# Altium integrated library Infineon_Microcontroller.IntLib: 721 symbols (part 28 of 66)
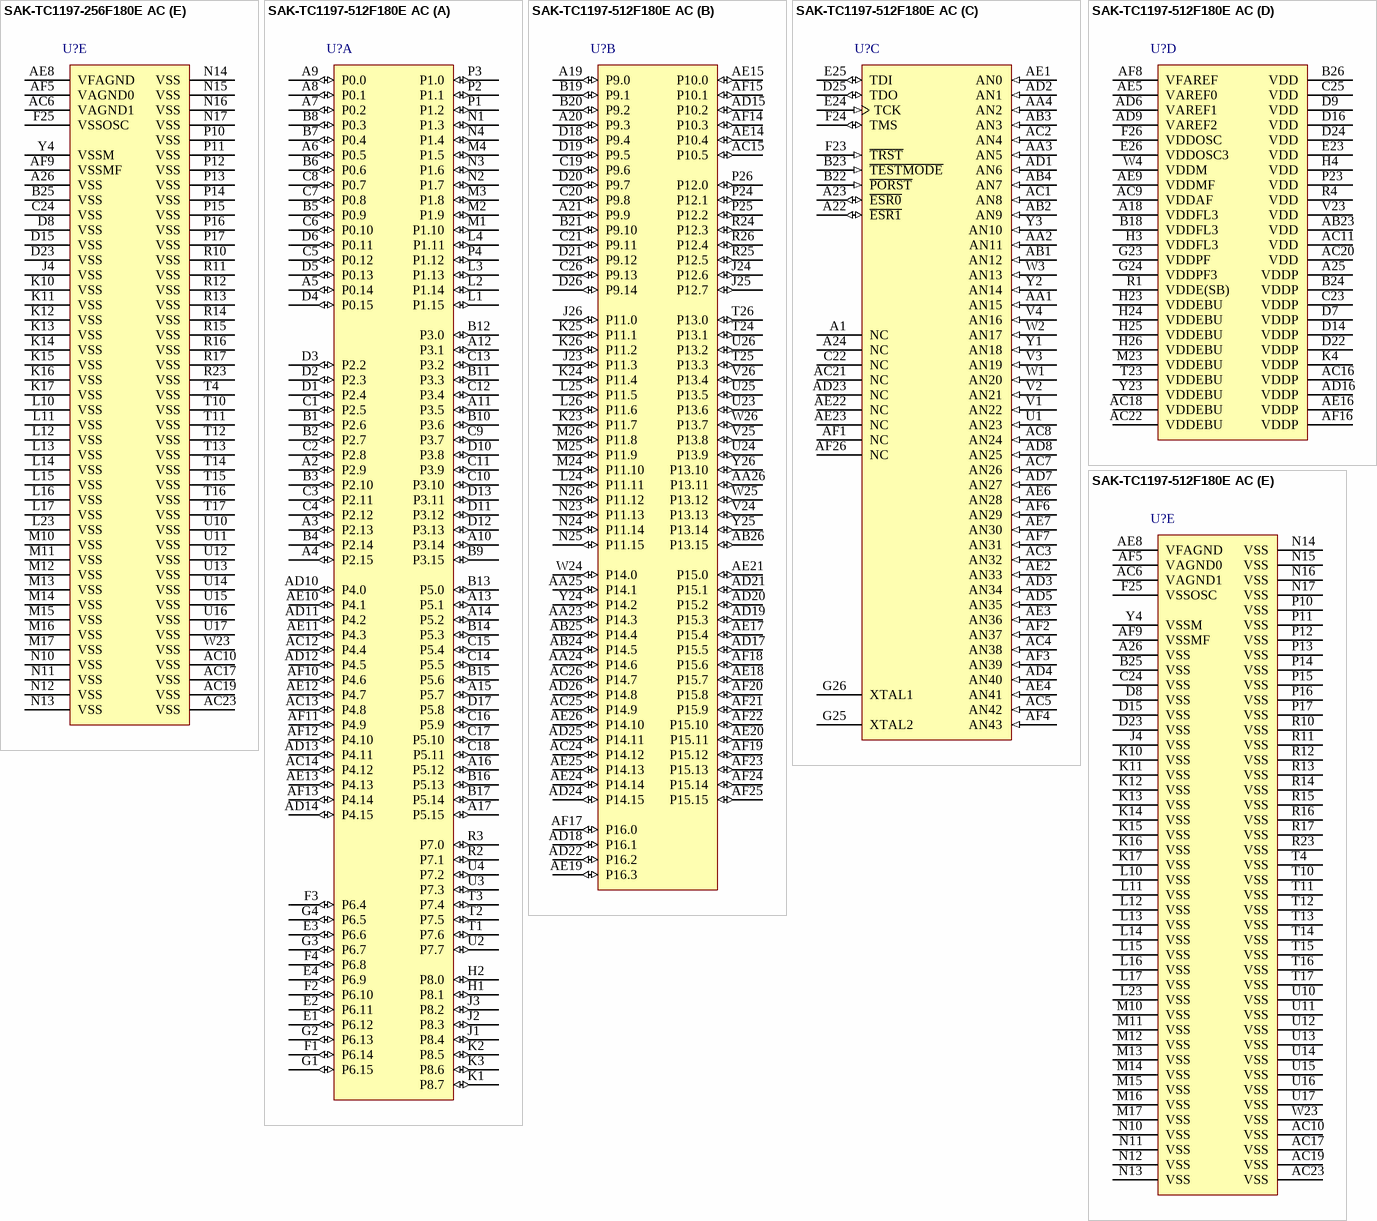
[diagram p145: symbols SAK-TC1197-256F180E AC to SAK-TC1197-512F180E AC]

## SAK-TC1197-256F180E AC
designator U?
180 MHz TC11 MCU with 2 MB Program Memory, 224 KByte SRAM, 3.3 V, 5.0 V, -40 to 125 degC, PG-BGA-416, Reel, Green; Manufacturer: Infineon; PartNumber: SAK-TC1197-256F180E AC; A / D input lines (incl. FADC): 48; CAN Nodes: 4; Digital I/O Lines: 219; DMA Channels: 16; DSP functionality (e.g MDU/MAC): TRUE; Instruction width [bits]: 32/16; Max Clock Frequency: 180 MHz; Number of ADC Modules: 3; Program Memory: 2 MB; Serial I/O Interfaces: 8; Timed I/O Pins (PWM-Ch,CAPCOM): 120; Timer / Counter: 228; Type of Memory: Flash; Type of Serial I/O Interfaces: ASC(2), SSC(2), MSC(2), MLI(2); DatasheetVersion: Rev. 1.1; PackageVersion: Feb-08; PackageReference: PG-BGA-416-10; PackageDescription: 416-Pin Plastic (Green) Ball Grid Array Package, Body 27 x 27 mm, Pitch 1 mm; Supplier 1: Digi-Key; Supplier Part Number 1: SAK-TC1197-256F180E AC-ND; E2PROM Emulation (Data-Flash): TRUE; External Bus interface: TRUE; Floating Point Unit: TRUE; Green: TRUE; Halogen-free: TRUE; I/O Operation Voltages: 3.3 V, 5.0 V; On-chip clock generation: TRUE; Oscillator Watchdog: TRUE; Packing: Reel; Peripheral Control Processor (PCP): TRUE; Power Modes: 3; SRAM (incl. Cache): 224 KByte; Watchdog Timer: TRUE; Mounting Technology: Surface Mount; ComponentLink1Description: Manufacturer URL; ComponentLink1URL: http://www.infineon.com/; ComponentLink2Description: Datasheet; ComponentLink2URL: http://www.infineon.com/dgdl/TC1197_data_sheet_V11.pdf?folderId=db3a3043156fd5730115b892639c0e97&fileId=db3a30431f848401011fae6229304728; ComponentLink3Description: Package Specification; ComponentLink3URL: http://www.infineon.com/dgdl/PG-BGA-416-4%2C-10%2C-13%2C-14-Package_Overview.pdf?folderId=db3a304317a748360117ac3a3cfd7449&fileId=db3a304317a748360117b12de3bd682e
footprint INF-PG-BGA-416-10 (BGA, 416-Balls, Body 27x27mm, Pitch 1mm)
part A pins: A2 P2.9 (io), A3 P2.13 (io), A4 P2.15 (io), A5 P0.14 (io), A6 P0.5 (io), A7 P0.2 (io), A8 P0.1 (io), A9 P0.0 (io), A10 P3.14 (io), A11 P3.5 (io), A12 P3.1 (io), A13 P5.1 (io), A14 P5.2 (io), A15 P5.7 (io), A16 P5.12 (io), A17 P5.15 (io), AC12 P4.4 (io), AC13 P4.8 (io), AC14 P4.12 (io), AD10 P4.0 (io), AD11 P4.2 (io), AD12 P4.5 (io), AD13 P4.11 (io), AD14 P4.15 (io), AE10 P4.1 (io), AE11 P4.3 (io), AE12 P4.7 (io), AE13 P4.13 (io), AF10 P4.6 (io), AF11 P4.9 (io), AF12 P4.10 (io), AF13 P4.14 (io), B1 P2.6 (io), B2 P2.7 (io), B3 P2.10 (io), B4 P2.14 (io), B5 P0.9 (io), B6 P0.6 (io), B7 P0.4 (io), B8 P0.3 (io), B9 P3.15 (io), B10 P3.6 (io), B11 P3.3 (io), B12 P3.0 (io), B13 P5.0 (io), B14 P5.3 (io), B15 P5.6 (io), B16 P5.13 (io), B17 P5.14 (io), C1 P2.5 (io), C2 P2.8 (io), C3 P2.11 (io), C4 P2.12 (io), C5 P0.12 (io), C6 P0.10 (io), C7 P0.8 (io), C8 P0.7 (io), C9 P3.7 (io), C10 P3.10 (io), C11 P3.9 (io), C12 P3.4 (io), C13 P3.2 (io), C14 P5.5 (io), C15 P5.4 (io), C16 P5.9 (io), C17 P5.10 (io), C18 P5.11 (io), D1 P2.4 (io), D2 P2.3 (io), D3 P2.2 (io), D4 P0.15 (io), D5 P0.13 (io), D6 P0.11 (io), D10 P3.8 (io), D11 P3.12 (io), D12 P3.13 (io), D13 P3.11 (io), D17 P5.8 (io), E1 P6.12 (io), E2 P6.11 (io), E3 P6.6 (io), E4 P6.9 (io), F1 P6.14 (io), F2 P6.10 (io), F3 P6.4 (io), F4 P6.8 (io), G1 P6.15 (io), G2 P6.13 (io), G3 P6.7 (io), G4 P6.5 (io), H1 P8.1 (io), H2 P8.0 (io), J1 P8.4 (io), J2 P8.3 (io), J3 P8.2 (io), K1 P8.7 (io), K2 P8.5 (io), K3 P8.6 (io), L1 P1.15 (io), L2 P1.14 (io), L3 P1.13 (io), L4 P1.11 (io), M1 P1.10 (io), M2 P1.9 (io), M3 P1.8 (io), M4 P1.5 (io), N1 P1.3 (io), N2 P1.7 (io), N3 P1.6 (io), N4 P1.4 (io), P1 P1.2 (io), P2 P1.1 (io), P3 P1.0 (io), P4 P1.12 (io), R2 P7.1 (io), R3 P7.0 (io), T1 P7.6 (io), T2 P7.5 (io), T3 P7.4 (io), U2 P7.7 (io), U3 P7.3 (io), U4 P7.2 (io)
part B pins: A19 P9.0 (io), A20 P9.3 (io), A21 P9.9 (io), AA23 P14.3 (io), AA24 P14.6 (io), AA25 P14.1 (io), AA26 P13.11 (io), AB24 P14.5 (io), AB25 P14.4 (io), AB26 P13.15 (io), AC15 P10.5 (io), AC24 P14.12 (io), AC25 P14.9 (io), AC26 P14.7 (io), AD15 P10.2 (io), AD17 P15.5 (io), AD18 P16.1 (io), AD19 P15.3 (io), AD20 P15.2 (io), AD21 P15.1 (io), AD22 P16.2 (io), AD24 P14.15 (io), AD25 P14.11 (io), AD26 P14.8 (io), AE14 P10.4 (io), AE15 P10.0 (io), AE17 P15.4 (io), AE18 P15.7 (io), AE19 P16.3 (io), AE20 P15.11 (io), AE21 P15.0 (io), AE24 P14.14 (io), AE25 P14.13 (io), AE26 P14.10 (io), AF14 P10.3 (io), AF15 P10.1 (io), AF17 P16.0 (io), AF18 P15.6 (io), AF19 P15.12 (io), AF20 P15.8 (io), AF21 P15.9 (io), AF22 P15.10 (io), AF23 P15.13 (io), AF24 P15.14 (io), AF25 P15.15 (io), B19 P9.1 (io), B20 P9.2 (io), B21 P9.10 (io), C19 P9.6 (io), C20 P9.8 (io), C21 P9.11 (io), C26 P9.13 (io), D18 P9.4 (io), D19 P9.5 (io), D20 P9.7 (io), D21 P9.12 (io), D26 P9.14 (io), J23 P11.3 (io), J24 P12.6 (io), J25 P12.7 (io), J26 P11.0 (io), K23 P11.7 (io), K24 P11.4 (io), K25 P11.1 (io), K26 P11.2 (io), L24 P11.11 (io), L25 P11.5 (io), L26 P11.6 (io), M24 P11.10 (io), M25 P11.9 (io), M26 P11.8 (io), N23 P11.13 (io), N24 P11.14 (io), N25 P11.15 (io), N26 P11.12 (io), P24 P12.1 (io), P25 P12.2 (io), P26 P12.0 (io), R24 P12.3 (io), R25 P12.5 (io), R26 P12.4 (io), T24 P13.1 (io), T25 P13.3 (io), T26 P13.0 (io), U23 P13.6 (io), U24 P13.9 (io), U25 P13.5 (io), U26 P13.2 (io), V24 P13.13 (io), V25 P13.8 (io), V26 P13.4 (io), W24 P14.0 (io), W25 P13.12 (io), W26 P13.7 (io), Y24 P14.2 (io), Y25 P13.14 (io), Y26 P13.10 (io)
part C pins: A1 NC "Not connected.", A22 ~{ESR1} (io) "External System Request Reset Input 1", A23 ~{ESR0} (io) "External System Request Reset Input 0", A24 NC "Not connected.", AA1 AN15 (in) "Analog Input 15", AA2 AN11 (in) "Analog Input 11", AA3 AN5 (in) "Analog Input 5", AA4 AN2 (in) "Analog Input 2", AB1 AN12 (in) "Analog Input 12", AB2 AN9 (in) "Analog Input 9", AB3 AN3 (in) "Analog Input 3", AB4 AN7 (in) "Analog Input 7", AC1 AN8 (in) "Analog Input 8", AC2 AN4 (in) "Analog Input 4", AC3 AN32 (in) "Analog Input 32", AC4 AN38 (in) "Analog Input 38", AC5 AN42 (in) "Analog Input 42", AC7 AN26 (in) "Analog Input 26", AC8 AN24 (in) "Analog Input 24", AC21 NC "Not connected.", AD1 AN6 (in) "Analog Input 6", AD2 AN1 (in) "Analog Input 1", AD3 AN34 (in) "Analog Input 34", AD4 AN40 (in) "Analog Input 40", AD5 AN35 (in) "Analog Input 35", AD7 AN27 (in) "Analog Input 27", AD8 AN25 (in) "Analog Input 25", AD23 NC "Not connected.", AE1 AN0 (in) "Analog Input 0", AE2 AN33 (in) "Analog Input 33", AE3 AN36 (in) "Analog Input 36", AE4 AN41 (in) "Analog Input 41", AE6 AN28 (in) "Analog Input 28", AE7 AN30 (in) "Analog Input 30", AE22 NC "Not connected.", AE23 NC "Not connected.", AF1 NC "Not connected.", AF2 AN37 (in) "Analog Input 37", AF3 AN39 (in) "Analog Input 39", AF4 AN43 (in) "Analog Input 43", AF6 AN29 (in) "Analog Input 29", AF7 AN31 (in) "Analog Input 31", AF26 NC "Not connected.", B22 ~{PORST} (in) "Power-on Reset Input", B23 ~{TESTMODE} (in) "Test Mode Select Input", C22 NC "Not connected.", D25 TDO (io), E24 TCK (in), E25 TDI (io), F23 ~{TRST} (in), F24 TMS (io), G25 XTAL2 "Main Oscillator/PLL/Clock Generator Output", G26 XTAL1 "Main Oscillator/PLL/Clock Generator Input", U1 AN23 (in) "Analog Input 23", V1 AN22 (in) "Analog Input 22", V2 AN21 (in) "Analog Input 21", V3 AN19 (in) "Analog Input 19", V4 AN16 (in) "Analog Input 16", W1 AN20 (in) "Analog Input 20", W2 AN17 (in) "Analog Input 17", W3 AN13 (in) "Analog Input 13", Y1 AN18 (in) "Analog Input 18", Y2 AN14 (in) "Analog Input 14", Y3 AN10 (in) "Analog Input 10"
part D pins: A18 VDDFL3 (power) "Flash Power Supply (3.3V)", A25 VDDP (power) "Port Power Supply (3.3V)", AB23 VDD (power) "Digital Core Power Supply (1.5V)", AC9 VDDAF (power) "FADC Analog Part Logic Power Supply (1.5V)", AC11 VDD (power) "Digital Core Power Supply (1.5V)", AC16 VDDP (power) "Port Power Supply (3.3V)", AC18 VDDEBU (power) "EBU Port Power Supply (2.5V - 3.3V)", AC20 VDD (power) "Digital Core Power Supply (1.5V)", AC22 VDDEBU (power) "EBU Port Power Supply (2.5V - 3.3V)", AD6 VAREF1 (power) "ADC1 Reference Voltage", AD9 VAREF2 (power) "ADC2 Reference Voltage", AD16 VDDP (power) "Port Power Supply (3.3V)", AE5 VAREF0 (power) "ADC0 Reference Voltage", AE9 VDDMF (power) "FADC Analog Part Power Supply (3.3V)", AE16 VDDP (power) "Port Power Supply (3.3V)", AF8 VFAREF (power) "FADC Reference Voltage", AF16 VDDP (power) "Port Power Supply (3.3V)", B18 VDDFL3 (power) "Flash Power Supply (3.3V)", B24 VDDP (power) "Port Power Supply (3.3V)", B26 VDD (power) "Digital Core Power Supply (1.5V)", C23 VDDP (power) "Port Power Supply (3.3V)", C25 VDD (power) "Digital Core Power Supply (1.5V)", D7 VDDP (power) "Port Power Supply (3.3V)", D9 VDD (power) "Digital Core Power Supply (1.5V)", D14 VDDP (power) "Port Power Supply (3.3V)", D16 VDD (power) "Digital Core Power Supply (1.5V)", D22 VDDP (power) "Port Power Supply (3.3V)", D24 VDD (power) "Digital Core Power Supply (1.5V)", E23 VDD (power) "Digital Core Power Supply (1.5V)", E26 VDDOSC3 (power) "Main Oscillator Power Supply (3.3V)", F26 VDDOSC (power) "Main Oscillator Power Supply (1.5V)", G23 VDDPF (power) "E-Ray PLL Power Supply (1.5V)", G24 VDDPF3 (power) "E-Ray PLL Power Supply (3.3V)", H3 VDDFL3 (power) "Flash Power Supply (3.3V)", H4 VDD (power) "Digital Core Power Supply (1.5V)", H23 VDDEBU (power) "EBU Port Power Supply (2.5V - 3.3V)", H24 VDDEBU (power) "EBU Port Power Supply (2.5V - 3.3V)", H25 VDDEBU (power) "EBU Port Power Supply (2.5V - 3.3V)", H26 VDDEBU (power) "EBU Port Power Supply (2.5V - 3.3V)", K4 VDDP (power) "Port Power Supply (3.3V)", M23 VDDEBU (power) "EBU Port Power Supply (2.5V - 3.3V)", P23 VDD (power) "Digital Core Power Supply (1.5V)", R1 VDDE(SB) (power) "Emulation Stand-by SRAM Power Supply (1.5V) (Emulation device only)", R4 VDD (power) "Digital Core Power Supply (1.5V)", T23 VDDEBU (power) "EBU Port Power Supply (2.5V - 3.3V)", V23 VDD (power) "Digital Core Power Supply (1.5V)", W4 VDDM (power) "ADC Analog Part Power Supply (3.3V - 5V)", Y23 VDDEBU (power) "EBU Port Power Supply (2.5V - 3.3V)"
part E pins: A26 VSS (power) "Digital Ground (outer balls)", AC6 VAGND1 (power) "ADC1 Reference Ground", AC10 VSS (power) "Digital Ground (outer balls)", AC17 VSS (power) "Digital Ground (outer balls)", AC19 VSS (power) "Digital Ground (outer balls)", AC23 VSS (power) "Digital Ground (outer balls)", AE8 VFAGND (power) "FADC Reference Ground", AF5 VAGND0 (power), AF9 VSSMF (power), B25 VSS (power) "Digital Ground (outer balls)", C24 VSS (power) "Digital Ground (outer balls)", D8 VSS (power) "Digital Ground (outer balls)", D15 VSS (power) "Digital Ground (outer balls)", D23 VSS (power) "Digital Ground (outer balls)", F25 VSSOSC (power), J4 VSS (power) "Digital Ground (outer balls)", K10 VSS (power) "Digital Ground (center balls)", K11 VSS (power) "Digital Ground (center balls)", K12 VSS (power) "Digital Ground (center balls)", K13 VSS (power) "Digital Ground (center balls)", K14 VSS (power) "Digital Ground (center balls)", K15 VSS (power) "Digital Ground (center balls)", K16 VSS (power) "Digital Ground (center balls)", K17 VSS (power) "Digital Ground (center balls)", L10 VSS (power) "Digital Ground (center balls)", L11 VSS (power) "Digital Ground (center balls)", L12 VSS (power) "Digital Ground (center balls)", L13 VSS (power) "Digital Ground (center balls)", L14 VSS (power) "Digital Ground (center balls)", L15 VSS (power) "Digital Ground (center balls)", L16 VSS (power) "Digital Ground (center balls)", L17 VSS (power) "Digital Ground (center balls)", L23 VSS (power) "Digital Ground (outer balls)", M10 VSS (power) "Digital Ground (center balls)", M11 VSS (power) "Digital Ground (center balls)", M12 VSS (power) "Digital Ground (center balls)", M13 VSS (power) "Digital Ground (center balls)", M14 VSS (power) "Digital Ground (center balls)", M15 VSS (power) "Digital Ground (center balls)", M16 VSS (power) "Digital Ground (center balls)", M17 VSS (power) "Digital Ground (center balls)", N10 VSS (power) "Digital Ground (center balls)", N11 VSS (power) "Digital Ground (center balls)", N12 VSS (power) "Digital Ground (center balls)", N13 VSS (power) "Digital Ground (center balls)", N14 VSS (power) "Digital Ground (center balls)", N15 VSS (power) "Digital Ground (center balls)", N16 VSS (power) "Digital Ground (center balls)", N17 VSS (power) "Digital Ground (center balls)", P10 VSS (power) "Digital Ground (center balls)", P11 VSS (power) "Digital Ground (center balls)", P12 VSS (power) "Digital Ground (center balls)", P13 VSS (power) "Digital Ground (center balls)", P14 VSS (power) "Digital Ground (center balls)", P15 VSS (power) "Digital Ground (center balls)", P16 VSS (power) "Digital Ground (center balls)", P17 VSS (power) "Digital Ground (center balls)", R10 VSS (power) "Digital Ground (center balls)", R11 VSS (power) "Digital Ground (center balls)", R12 VSS (power) "Digital Ground (center balls)", R13 VSS (power) "Digital Ground (center balls)", R14 VSS (power) "Digital Ground (center balls)", R15 VSS (power) "Digital Ground (center balls)", R16 VSS (power) "Digital Ground (center balls)", R17 VSS (power) "Digital Ground (center balls)", R23 VSS (power) "Digital Ground (outer balls)", T4 VSS (power) "Digital Ground (outer balls)", T10 VSS (power) "Digital Ground (center balls)", T11 VSS (power) "Digital Ground (center balls)", T12 VSS (power) "Digital Ground (center balls)", T13 VSS (power) "Digital Ground (center balls)", T14 VSS (power) "Digital Ground (center balls)", T15 VSS (power) "Digital Ground (center balls)", T16 VSS (power) "Digital Ground (center balls)", T17 VSS (power) "Digital Ground (center balls)", U10 VSS (power) "Digital Ground (center balls)", U11 VSS (power) "Digital Ground (center balls)", U12 VSS (power) "Digital Ground (center balls)", U13 VSS (power) "Digital Ground (center balls)", U14 VSS (power) "Digital Ground (center balls)", U15 VSS (power) "Digital Ground (center balls)", U16 VSS (power) "Digital Ground (center balls)", U17 VSS (power) "Digital Ground (center balls)", W23 VSS (power) "Digital Ground (outer balls)", Y4 VSSM (power) "ADC Analog Part Ground"

## SAK-TC1197-512F180E AC
designator U?
180 MHz TC11 MCU with 4 MB Program Memory, 224 KByte SRAM, 3.3 V, 5.0 V, -40 to 125 degC, PG-BGA-416, Reel, Green; Manufacturer: Infineon; PartNumber: SAK-TC1197-512F180E AC; A / D input lines (incl. FADC): 48; CAN Nodes: 4; Digital I/O Lines: 219; DMA Channels: 16; DSP functionality (e.g MDU/MAC): TRUE; Instruction width [bits]: 32/16; Max Clock Frequency: 180 MHz; Number of ADC Modules: 3; Program Memory: 4 MB; Serial I/O Interfaces: 8; Timed I/O Pins (PWM-Ch,CAPCOM): 120; Timer / Counter: 228; Type of Memory: Flash; Type of Serial I/O Interfaces: ASC(2), SSC(2), MSC(2), MLI(2); DatasheetVersion: Rev. 1.1; PackageVersion: Feb-08; PackageReference: PG-BGA-416-10; PackageDescription: 416-Pin Plastic (Green) Ball Grid Array Package, Body 27 x 27 mm, Pitch 1 mm; Supplier 1: Digi-Key; Supplier Part Number 1: SAK-TC1197-512F180E AC-ND; E2PROM Emulation (Data-Flash): TRUE; External Bus interface: TRUE; Floating Point Unit: TRUE; Green: TRUE; Halogen-free: TRUE; I/O Operation Voltages: 3.3 V, 5.0 V; On-chip clock generation: TRUE; Oscillator Watchdog: TRUE; Packing: Reel; Peripheral Control Processor (PCP): TRUE; Power Modes: 3; SRAM (incl. Cache): 224 KByte; Watchdog Timer: TRUE; Mounting Technology: Surface Mount; ComponentLink1Description: Manufacturer URL; ComponentLink1URL: http://www.infineon.com/; ComponentLink2Description: Datasheet; ComponentLink2URL: http://www.infineon.com/dgdl/TC1197_data_sheet_V11.pdf?folderId=db3a3043156fd5730115b892639c0e97&fileId=db3a30431f848401011fae6229304728; ComponentLink3Description: Package Specification; ComponentLink3URL: http://www.infineon.com/dgdl/PG-BGA-416-4%2C-10%2C-13%2C-14-Package_Overview.pdf?folderId=db3a304317a748360117ac3a3cfd7449&fileId=db3a304317a748360117b12de3bd682e
footprint INF-PG-BGA-416-10 (BGA, 416-Balls, Body 27x27mm, Pitch 1mm)
part A pins: A2 P2.9 (io), A3 P2.13 (io), A4 P2.15 (io), A5 P0.14 (io), A6 P0.5 (io), A7 P0.2 (io), A8 P0.1 (io), A9 P0.0 (io), A10 P3.14 (io), A11 P3.5 (io), A12 P3.1 (io), A13 P5.1 (io), A14 P5.2 (io), A15 P5.7 (io), A16 P5.12 (io), A17 P5.15 (io), AC12 P4.4 (io), AC13 P4.8 (io), AC14 P4.12 (io), AD10 P4.0 (io), AD11 P4.2 (io), AD12 P4.5 (io), AD13 P4.11 (io), AD14 P4.15 (io), AE10 P4.1 (io), AE11 P4.3 (io), AE12 P4.7 (io), AE13 P4.13 (io), AF10 P4.6 (io), AF11 P4.9 (io), AF12 P4.10 (io), AF13 P4.14 (io), B1 P2.6 (io), B2 P2.7 (io), B3 P2.10 (io), B4 P2.14 (io), B5 P0.9 (io), B6 P0.6 (io), B7 P0.4 (io), B8 P0.3 (io), B9 P3.15 (io), B10 P3.6 (io), B11 P3.3 (io), B12 P3.0 (io), B13 P5.0 (io), B14 P5.3 (io), B15 P5.6 (io), B16 P5.13 (io), B17 P5.14 (io), C1 P2.5 (io), C2 P2.8 (io), C3 P2.11 (io), C4 P2.12 (io), C5 P0.12 (io), C6 P0.10 (io), C7 P0.8 (io), C8 P0.7 (io), C9 P3.7 (io), C10 P3.10 (io), C11 P3.9 (io), C12 P3.4 (io), C13 P3.2 (io), C14 P5.5 (io), C15 P5.4 (io), C16 P5.9 (io), C17 P5.10 (io), C18 P5.11 (io), D1 P2.4 (io), D2 P2.3 (io), D3 P2.2 (io), D4 P0.15 (io), D5 P0.13 (io), D6 P0.11 (io), D10 P3.8 (io), D11 P3.12 (io), D12 P3.13 (io), D13 P3.11 (io), D17 P5.8 (io), E1 P6.12 (io), E2 P6.11 (io), E3 P6.6 (io), E4 P6.9 (io), F1 P6.14 (io), F2 P6.10 (io), F3 P6.4 (io), F4 P6.8 (io), G1 P6.15 (io), G2 P6.13 (io), G3 P6.7 (io), G4 P6.5 (io), H1 P8.1 (io), H2 P8.0 (io), J1 P8.4 (io), J2 P8.3 (io), J3 P8.2 (io), K1 P8.7 (io), K2 P8.5 (io), K3 P8.6 (io), L1 P1.15 (io), L2 P1.14 (io), L3 P1.13 (io), L4 P1.11 (io), M1 P1.10 (io), M2 P1.9 (io), M3 P1.8 (io), M4 P1.5 (io), N1 P1.3 (io), N2 P1.7 (io), N3 P1.6 (io), N4 P1.4 (io), P1 P1.2 (io), P2 P1.1 (io), P3 P1.0 (io), P4 P1.12 (io), R2 P7.1 (io), R3 P7.0 (io), T1 P7.6 (io), T2 P7.5 (io), T3 P7.4 (io), U2 P7.7 (io), U3 P7.3 (io), U4 P7.2 (io)
part B pins: A19 P9.0 (io), A20 P9.3 (io), A21 P9.9 (io), AA23 P14.3 (io), AA24 P14.6 (io), AA25 P14.1 (io), AA26 P13.11 (io), AB24 P14.5 (io), AB25 P14.4 (io), AB26 P13.15 (io), AC15 P10.5 (io), AC24 P14.12 (io), AC25 P14.9 (io), AC26 P14.7 (io), AD15 P10.2 (io), AD17 P15.5 (io), AD18 P16.1 (io), AD19 P15.3 (io), AD20 P15.2 (io), AD21 P15.1 (io), AD22 P16.2 (io), AD24 P14.15 (io), AD25 P14.11 (io), AD26 P14.8 (io), AE14 P10.4 (io), AE15 P10.0 (io), AE17 P15.4 (io), AE18 P15.7 (io), AE19 P16.3 (io), AE20 P15.11 (io), AE21 P15.0 (io), AE24 P14.14 (io), AE25 P14.13 (io), AE26 P14.10 (io), AF14 P10.3 (io), AF15 P10.1 (io), AF17 P16.0 (io), AF18 P15.6 (io), AF19 P15.12 (io), AF20 P15.8 (io), AF21 P15.9 (io), AF22 P15.10 (io), AF23 P15.13 (io), AF24 P15.14 (io), AF25 P15.15 (io), B19 P9.1 (io), B20 P9.2 (io), B21 P9.10 (io), C19 P9.6 (io), C20 P9.8 (io), C21 P9.11 (io), C26 P9.13 (io), D18 P9.4 (io), D19 P9.5 (io), D20 P9.7 (io), D21 P9.12 (io), D26 P9.14 (io), J23 P11.3 (io), J24 P12.6 (io), J25 P12.7 (io), J26 P11.0 (io), K23 P11.7 (io), K24 P11.4 (io), K25 P11.1 (io), K26 P11.2 (io), L24 P11.11 (io), L25 P11.5 (io), L26 P11.6 (io), M24 P11.10 (io), M25 P11.9 (io), M26 P11.8 (io), N23 P11.13 (io), N24 P11.14 (io), N25 P11.15 (io), N26 P11.12 (io), P24 P12.1 (io), P25 P12.2 (io), P26 P12.0 (io), R24 P12.3 (io), R25 P12.5 (io), R26 P12.4 (io), T24 P13.1 (io), T25 P13.3 (io), T26 P13.0 (io), U23 P13.6 (io), U24 P13.9 (io), U25 P13.5 (io), U26 P13.2 (io), V24 P13.13 (io), V25 P13.8 (io), V26 P13.4 (io), W24 P14.0 (io), W25 P13.12 (io), W26 P13.7 (io), Y24 P14.2 (io), Y25 P13.14 (io), Y26 P13.10 (io)
part C pins: A1 NC "Not connected.", A22 ~{ESR1} (io) "External System Request Reset Input 1", A23 ~{ESR0} (io) "External System Request Reset Input 0", A24 NC "Not connected.", AA1 AN15 (in) "Analog Input 15", AA2 AN11 (in) "Analog Input 11", AA3 AN5 (in) "Analog Input 5", AA4 AN2 (in) "Analog Input 2", AB1 AN12 (in) "Analog Input 12", AB2 AN9 (in) "Analog Input 9", AB3 AN3 (in) "Analog Input 3", AB4 AN7 (in) "Analog Input 7", AC1 AN8 (in) "Analog Input 8", AC2 AN4 (in) "Analog Input 4", AC3 AN32 (in) "Analog Input 32", AC4 AN38 (in) "Analog Input 38", AC5 AN42 (in) "Analog Input 42", AC7 AN26 (in) "Analog Input 26", AC8 AN24 (in) "Analog Input 24", AC21 NC "Not connected.", AD1 AN6 (in) "Analog Input 6", AD2 AN1 (in) "Analog Input 1", AD3 AN34 (in) "Analog Input 34", AD4 AN40 (in) "Analog Input 40", AD5 AN35 (in) "Analog Input 35", AD7 AN27 (in) "Analog Input 27", AD8 AN25 (in) "Analog Input 25", AD23 NC "Not connected.", AE1 AN0 (in) "Analog Input 0", AE2 AN33 (in) "Analog Input 33", AE3 AN36 (in) "Analog Input 36", AE4 AN41 (in) "Analog Input 41", AE6 AN28 (in) "Analog Input 28", AE7 AN30 (in) "Analog Input 30", AE22 NC "Not connected.", AE23 NC "Not connected.", AF1 NC "Not connected.", AF2 AN37 (in) "Analog Input 37", AF3 AN39 (in) "Analog Input 39", AF4 AN43 (in) "Analog Input 43", AF6 AN29 (in) "Analog Input 29", AF7 AN31 (in) "Analog Input 31", AF26 NC "Not connected.", B22 ~{PORST} (in) "Power-on Reset Input", B23 ~{TESTMODE} (in) "Test Mode Select Input", C22 NC "Not connected.", D25 TDO (io), E24 TCK (in), E25 TDI (io), F23 ~{TRST} (in), F24 TMS (io), G25 XTAL2 "Main Oscillator/PLL/Clock Generator Output", G26 XTAL1 "Main Oscillator/PLL/Clock Generator Input", U1 AN23 (in) "Analog Input 23", V1 AN22 (in) "Analog Input 22", V2 AN21 (in) "Analog Input 21", V3 AN19 (in) "Analog Input 19", V4 AN16 (in) "Analog Input 16", W1 AN20 (in) "Analog Input 20", W2 AN17 (in) "Analog Input 17", W3 AN13 (in) "Analog Input 13", Y1 AN18 (in) "Analog Input 18", Y2 AN14 (in) "Analog Input 14", Y3 AN10 (in) "Analog Input 10"
part D pins: A18 VDDFL3 (power) "Flash Power Supply (3.3V)", A25 VDDP (power) "Port Power Supply (3.3V)", AB23 VDD (power) "Digital Core Power Supply (1.5V)", AC9 VDDAF (power) "FADC Analog Part Logic Power Supply (1.5V)", AC11 VDD (power) "Digital Core Power Supply (1.5V)", AC16 VDDP (power) "Port Power Supply (3.3V)", AC18 VDDEBU (power) "EBU Port Power Supply (2.5V - 3.3V)", AC20 VDD (power) "Digital Core Power Supply (1.5V)", AC22 VDDEBU (power) "EBU Port Power Supply (2.5V - 3.3V)", AD6 VAREF1 (power) "ADC1 Reference Voltage", AD9 VAREF2 (power) "ADC2 Reference Voltage", AD16 VDDP (power) "Port Power Supply (3.3V)", AE5 VAREF0 (power) "ADC0 Reference Voltage", AE9 VDDMF (power) "FADC Analog Part Power Supply (3.3V)", AE16 VDDP (power) "Port Power Supply (3.3V)", AF8 VFAREF (power) "FADC Reference Voltage", AF16 VDDP (power) "Port Power Supply (3.3V)", B18 VDDFL3 (power) "Flash Power Supply (3.3V)", B24 VDDP (power) "Port Power Supply (3.3V)", B26 VDD (power) "Digital Core Power Supply (1.5V)", C23 VDDP (power) "Port Power Supply (3.3V)", C25 VDD (power) "Digital Core Power Supply (1.5V)", D7 VDDP (power) "Port Power Supply (3.3V)", D9 VDD (power) "Digital Core Power Supply (1.5V)", D14 VDDP (power) "Port Power Supply (3.3V)", D16 VDD (power) "Digital Core Power Supply (1.5V)", D22 VDDP (power) "Port Power Supply (3.3V)", D24 VDD (power) "Digital Core Power Supply (1.5V)", E23 VDD (power) "Digital Core Power Supply (1.5V)", E26 VDDOSC3 (power) "Main Oscillator Power Supply (3.3V)", F26 VDDOSC (power) "Main Oscillator Power Supply (1.5V)", G23 VDDPF (power) "E-Ray PLL Power Supply (1.5V)", G24 VDDPF3 (power) "E-Ray PLL Power Supply (3.3V)", H3 VDDFL3 (power) "Flash Power Supply (3.3V)", H4 VDD (power) "Digital Core Power Supply (1.5V)", H23 VDDEBU (power) "EBU Port Power Supply (2.5V - 3.3V)", H24 VDDEBU (power) "EBU Port Power Supply (2.5V - 3.3V)", H25 VDDEBU (power) "EBU Port Power Supply (2.5V - 3.3V)", H26 VDDEBU (power) "EBU Port Power Supply (2.5V - 3.3V)", K4 VDDP (power) "Port Power Supply (3.3V)", M23 VDDEBU (power) "EBU Port Power Supply (2.5V - 3.3V)", P23 VDD (power) "Digital Core Power Supply (1.5V)", R1 VDDE(SB) (power) "Emulation Stand-by SRAM Power Supply (1.5V) (Emulation device only)", R4 VDD (power) "Digital Core Power Supply (1.5V)", T23 VDDEBU (power) "EBU Port Power Supply (2.5V - 3.3V)", V23 VDD (power) "Digital Core Power Supply (1.5V)", W4 VDDM (power) "ADC Analog Part Power Supply (3.3V - 5V)", Y23 VDDEBU (power) "EBU Port Power Supply (2.5V - 3.3V)"
part E pins: A26 VSS (power) "Digital Ground (outer balls)", AC6 VAGND1 (power) "ADC1 Reference Ground", AC10 VSS (power) "Digital Ground (outer balls)", AC17 VSS (power) "Digital Ground (outer balls)", AC19 VSS (power) "Digital Ground (outer balls)", AC23 VSS (power) "Digital Ground (outer balls)", AE8 VFAGND (power) "FADC Reference Ground", AF5 VAGND0 (power), AF9 VSSMF (power), B25 VSS (power) "Digital Ground (outer balls)", C24 VSS (power) "Digital Ground (outer balls)", D8 VSS (power) "Digital Ground (outer balls)", D15 VSS (power) "Digital Ground (outer balls)", D23 VSS (power) "Digital Ground (outer balls)", F25 VSSOSC (power), J4 VSS (power) "Digital Ground (outer balls)", K10 VSS (power) "Digital Ground (center balls)", K11 VSS (power) "Digital Ground (center balls)", K12 VSS (power) "Digital Ground (center balls)", K13 VSS (power) "Digital Ground (center balls)", K14 VSS (power) "Digital Ground (center balls)", K15 VSS (power) "Digital Ground (center balls)", K16 VSS (power) "Digital Ground (center balls)", K17 VSS (power) "Digital Ground (center balls)", L10 VSS (power) "Digital Ground (center balls)", L11 VSS (power) "Digital Ground (center balls)", L12 VSS (power) "Digital Ground (center balls)", L13 VSS (power) "Digital Ground (center balls)", L14 VSS (power) "Digital Ground (center balls)", L15 VSS (power) "Digital Ground (center balls)", L16 VSS (power) "Digital Ground (center balls)", L17 VSS (power) "Digital Ground (center balls)", L23 VSS (power) "Digital Ground (outer balls)", M10 VSS (power) "Digital Ground (center balls)", M11 VSS (power) "Digital Ground (center balls)", M12 VSS (power) "Digital Ground (center balls)", M13 VSS (power) "Digital Ground (center balls)", M14 VSS (power) "Digital Ground (center balls)", M15 VSS (power) "Digital Ground (center balls)", M16 VSS (power) "Digital Ground (center balls)", M17 VSS (power) "Digital Ground (center balls)", N10 VSS (power) "Digital Ground (center balls)", N11 VSS (power) "Digital Ground (center balls)", N12 VSS (power) "Digital Ground (center balls)", N13 VSS (power) "Digital Ground (center balls)", N14 VSS (power) "Digital Ground (center balls)", N15 VSS (power) "Digital Ground (center balls)", N16 VSS (power) "Digital Ground (center balls)", N17 VSS (power) "Digital Ground (center balls)", P10 VSS (power) "Digital Ground (center balls)", P11 VSS (power) "Digital Ground (center balls)", P12 VSS (power) "Digital Ground (center balls)", P13 VSS (power) "Digital Ground (center balls)", P14 VSS (power) "Digital Ground (center balls)", P15 VSS (power) "Digital Ground (center balls)", P16 VSS (power) "Digital Ground (center balls)", P17 VSS (power) "Digital Ground (center balls)", R10 VSS (power) "Digital Ground (center balls)", R11 VSS (power) "Digital Ground (center balls)", R12 VSS (power) "Digital Ground (center balls)", R13 VSS (power) "Digital Ground (center balls)", R14 VSS (power) "Digital Ground (center balls)", R15 VSS (power) "Digital Ground (center balls)", R16 VSS (power) "Digital Ground (center balls)", R17 VSS (power) "Digital Ground (center balls)", R23 VSS (power) "Digital Ground (outer balls)", T4 VSS (power) "Digital Ground (outer balls)", T10 VSS (power) "Digital Ground (center balls)", T11 VSS (power) "Digital Ground (center balls)", T12 VSS (power) "Digital Ground (center balls)", T13 VSS (power) "Digital Ground (center balls)", T14 VSS (power) "Digital Ground (center balls)", T15 VSS (power) "Digital Ground (center balls)", T16 VSS (power) "Digital Ground (center balls)", T17 VSS (power) "Digital Ground (center balls)", U10 VSS (power) "Digital Ground (center balls)", U11 VSS (power) "Digital Ground (center balls)", U12 VSS (power) "Digital Ground (center balls)", U13 VSS (power) "Digital Ground (center balls)", U14 VSS (power) "Digital Ground (center balls)", U15 VSS (power) "Digital Ground (center balls)", U16 VSS (power) "Digital Ground (center balls)", U17 VSS (power) "Digital Ground (center balls)", W23 VSS (power) "Digital Ground (outer balls)", Y4 VSSM (power) "ADC Analog Part Ground"

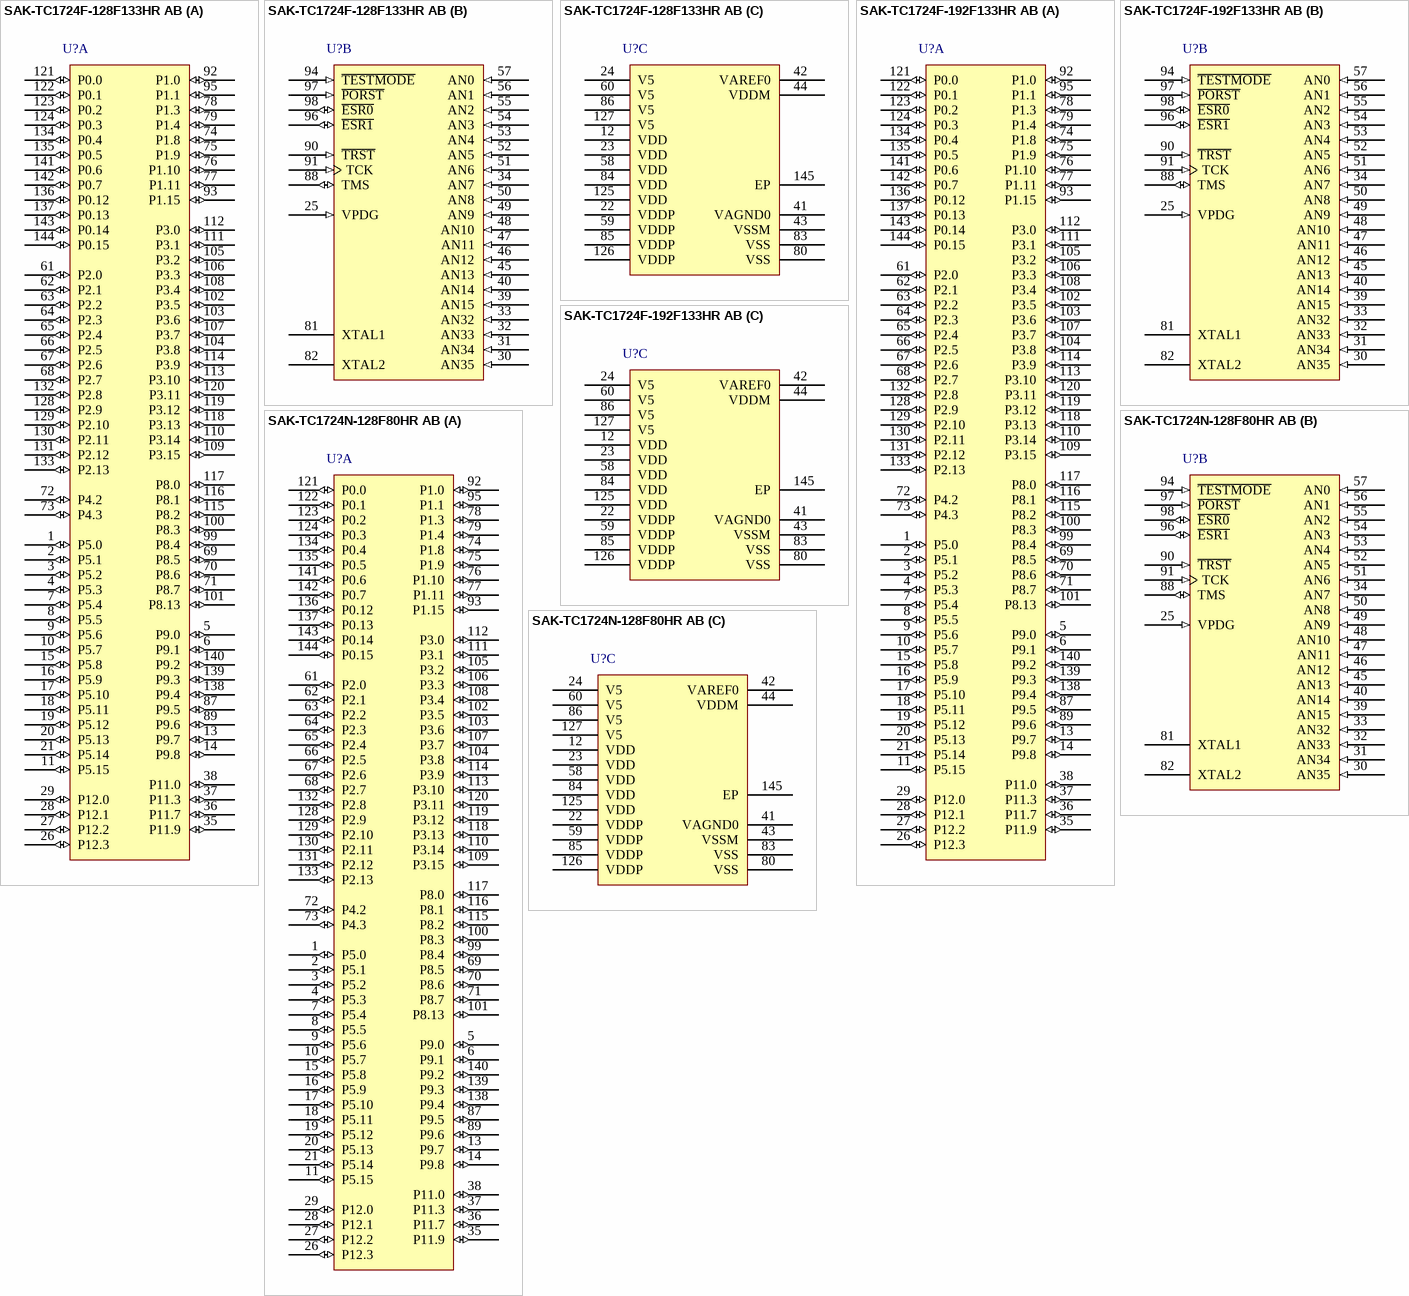
[diagram p49: symbols SAK-TC1724F-128F133HR AB to SAK-TC1724N-128F80HR AB]

## SAK-TC1724F-128F133HR AB
designator U?
133 MHz AUDO MCU with 1 MB Program Memory, 152 KByte SRAM, 3.3 V, -40 to 125 degC, PG-LQFP-144, Reel, Green; Manufacturer: Infineon; PartNumber: SAK-TC1724F-128F133HR AB; A / D input lines (incl. FADC): 28; CAN Nodes: 3; Digital I/O Lines: 95; DMA Channels: 16; DSP functionality (e.g MDU/MAC): TRUE; External Bus interface: FALSE; I/O Operation Voltages: 3.3 V; Instruction set architecture: TriCore v1.3.1; Instruction width [bits]: 32/16; LIN BSL loader (for fast Flash programming): FALSE; Max Clock Frequency: 133 MHz; Number of ADC Modules: 2; Program Memory: 1 MB; Serial I/O Interfaces: 8; Timed I/O Pins (PWM-Ch,CAPCOM): 77; Timer / Counter: 118; Type of Memory: Flash; Type of Serial I/O Interfaces: ASC(2), SSC(4), MSC(1), MLI(1); DatasheetVersion: Rev. 1.1; PackageVersion: V1.1, 03/2012; PackageReference: PG-LQFP-144-17; PackageDescription: 144-Pin Plastic (Green) Low Profile Quad Flat Package, Body 20 x 20 mm, Pitch 0.5 mm; E2PROM Emulation (Data-Flash): TRUE; FlexRay TM: TRUE; Floating Point Unit: TRUE; Green: TRUE; Halogen-free: TRUE; On-chip clock generation: TRUE; On-chip Voltage Regulator: TRUE; Oscillator Watchdog: TRUE; Packing: Reel; Peripheral Control Processor (PCP): TRUE; Power Modes: 3; SRAM (incl. Cache): 152 KByte; Watchdog Timer: TRUE; Mounting Technology: Surface Mount; Code_JEDEC: J-STD-020C; ComponentLink1Description: Manufacturer URL; ComponentLink1URL: http://www.infineon.com/; ComponentLink2Description: Datasheet; ComponentLink2URL: http://www.infineon.com/dgdl/TC1724_DS_V1.1.pdf?folderId=db3a304412b407950112b409ae7c0343&fileId=db3a30433580b3710135815455840086; ComponentLink3Description: Package Specification; ComponentLink3URL: http://www.infineon.com/dgdl/TC1724_DS_V1.1.pdf?folderId=db3a304412b407950112b409ae7c0343&fileId=db3a30433580b3710135815455840086
footprint INF-PG-LQFP-144-17_N (QFP, 144-Leads, Body 20x20mm, Pitch 0.5mm, Thermal Pad 7.5x7.5mm, IPC Medium Density)
footprint INF-PG-LQFP-144-17_L (QFP, 144-Leads, Body 20x20mm, Pitch 0.5mm, Thermal Pad 7.5x7.5mm, IPC High Density)
footprint INF-PG-LQFP-144-17_M (QFP, 144-Leads, Body 20x20mm, Pitch 0.5mm, Thermal Pad 7.5x7.5mm, IPC Low Density)
part A pins: 1 P5.0 (io), 2 P5.1 (io), 3 P5.2 (io), 4 P5.3 (io), 5 P9.0 (io), 6 P9.1 (io), 7 P5.4 (io), 8 P5.5 (io), 9 P5.6 (io), 10 P5.7 (io), 11 P5.15 (io), 13 P9.7 (io), 14 P9.8 (io), 15 P5.8 (io), 16 P5.9 (io), 17 P5.10 (io), 18 P5.11 (io), 19 P5.12 (io), 20 P5.13 (io), 21 P5.14 (io), 26 P12.3 (io), 27 P12.2 (io), 28 P12.1 (io), 29 P12.0 (io), 35 P11.9 (io), 36 P11.7 (io), 37 P11.3 (io), 38 P11.0 (io), 61 P2.0 (io), 62 P2.1 (io), 63 P2.2 (io), 64 P2.3 (io), 65 P2.4 (io), 66 P2.5 (io), 67 P2.6 (io), 68 P2.7 (io), 69 P8.5 (io), 70 P8.6 (io), 71 P8.7 (io), 72 P4.2 (io), 73 P4.3 (io), 74 P1.8 (io), 75 P1.9 (io), 76 P1.10 (io), 77 P1.11 (io), 78 P1.3 (io), 79 P1.4 (io), 87 P9.5 (io), 89 P9.6 (io), 92 P1.0 (io), 93 P1.15 (io), 95 P1.1 (io), 99 P8.4 (io), 100 P8.3 (io), 101 P8.13 (io), 102 P3.5 (io), 103 P3.6 (io), 104 P3.8 (io), 105 P3.2 (io), 106 P3.3 (io), 107 P3.7 (io), 108 P3.4 (io), 109 P3.15 (io), 110 P3.14 (io), 111 P3.1 (io), 112 P3.0 (io), 113 P3.10 (io), 114 P3.9 (io), 115 P8.2 (io), 116 P8.1 (io), 117 P8.0 (io), 118 P3.13 (io), 119 P3.12 (io), 120 P3.11 (io), 121 P0.0 (io), 122 P0.1 (io), 123 P0.2 (io), 124 P0.3 (io), 128 P2.9 (io), 129 P2.10 (io), 130 P2.11 (io), 131 P2.12 (io), 132 P2.8 (io), 133 P2.13 (io), 134 P0.4 (io), 135 P0.5 (io), 136 P0.12 (io), 137 P0.13 (io), 138 P9.4 (io), 139 P9.3 (io), 140 P9.2 (io), 141 P0.6 (io), 142 P0.7 (io), 143 P0.14 (io), 144 P0.15 (io)
part B pins: 25 VPDG (in) "EVR Pass Device Gate", 30 AN35 (in) "Analog Input 35: FADC_FADIN1N", 31 AN34 (in) "Analog Input 34: FADC_FADIN1P", 32 AN33 (in) "Analog Input 33: FADC_FADIN0N", 33 AN32 (in) "Analog Input 32: FADC_FADIN0P", 34 AN7 (in) "Analog Input 7: ADC0.CH7", 39 AN15 (in) "Analog Input 15: ADC0.CH15", 40 AN14 (in) "Analog Input 14: ADC0.CH14", 45 AN13 (in) "Analog Input 13: ADC0.CH13", 46 AN12 (in) "Analog Input 12: ADC0.CH12", 47 AN11 (in) "Analog Input 11: ADC0.CH11", 48 AN10 (in) "Analog Input 10: ADC0.CH10", 49 AN9 (in) "Analog Input 9: ADC0.CH9", 50 AN8 (in) "Analog Input 8: ADC0.CH8", 51 AN6 (in) "Analog Input 6: ADC0.CH6", 52 AN5 (in) "Analog Input 5: ADC0.CH5", 53 AN4 (in) "Analog Input 4: ADC0.CH4", 54 AN3 (in) "Analog Input 3: ADC0.CH3", 55 AN2 (in) "Analog Input 2: ADC0.CH2", 56 AN1 (in) "Analog Input 1: ADC0.CH1", 57 AN0 (in) "Analog Input 0: ADC0.CH0", 81 XTAL1 "Main Oscillator Input", 82 XTAL2 "Main Oscillator Output", 88 TMS (io), 90 ~{TRST} (in) "JTAG Reset Input", 91 TCK (in), 94 ~{TESTMODE} (in) "Test Mode Select Input", 96 ~{ESR1} (io) "External System Request Reset Input 1", 97 ~{PORST} (in) "Power On Reset", 98 ~{ESR0} (io) "External System Request Reset Input 0"
part C pins: 12 VDD (power) "Digital Core Power Supply (1.3V)", 22 VDDP (power) "Port Power Supply (3.3V)", 23 VDD (power) "Digital Core Power Supply (1.3V)", 24 V5 (power) "EVR Power Supply (5V)", 41 VAGND0 (power) "ADC Reference Ground", 42 VAREF0 (power) "ADC0 and ADC1 Reference Voltage", 43 VSSM (power) "ADC Analog Part Ground", 44 VDDM (power) "ADC Analog Part Power Supply (3.3V - 5V)", 58 VDD (power) "Digital Core Power Supply (1.3V)", 59 VDDP (power) "Port Power Supply (3.3V)", 60 V5 (power) "EVR Power Supply (5V)", 80 VSS (power) "Digital Ground", 83 VSS (power) "Digital Ground", 84 VDD (power) "Digital Core Power Supply (1.3V)", 85 VDDP (power) "Port Power Supply (3.3V)", 86 V5 (power) "EVR Power Supply (5V)", 125 VDD (power) "Digital Core Power Supply (1.3V)", 126 VDDP (power) "Port Power Supply (3.3V)", 127 V5 (power) "EVR Power Supply (5V)", 145 EP "Exposed Pad"

## SAK-TC1724F-192F133HR AB
designator U?
133 MHz AUDO MCU with 1 MB Program Memory, 152 KByte SRAM, 3.3 V, -40 to 125 degC, PG-LQFP-144, Reel, Green; Manufacturer: Infineon; PartNumber: SAK-TC1724F-192F133HR AB; A / D input lines (incl. FADC): 28; CAN Nodes: 3; Digital I/O Lines: 95; DMA Channels: 16; DSP functionality (e.g MDU/MAC): TRUE; External Bus interface: FALSE; I/O Operation Voltages: 3.3 V; Instruction set architecture: TriCore v1.3.1; Instruction width [bits]: 32/16; LIN BSL loader (for fast Flash programming): FALSE; Max Clock Frequency: 133 MHz; Number of ADC Modules: 2; Program Memory: 1 MB; Serial I/O Interfaces: 8; Timed I/O Pins (PWM-Ch,CAPCOM): 77; Timer / Counter: 118; Type of Memory: Flash; Type of Serial I/O Interfaces: ASC(2), SSC(4), MSC(1), MLI(1); DatasheetVersion: Rev. 1.1; PackageVersion: V1.1, 03/2012; PackageReference: PG-LQFP-144-17; PackageDescription: 144-Pin Plastic (Green) Low Profile Quad Flat Package, Body 20 x 20 mm, Pitch 0.5 mm; E2PROM Emulation (Data-Flash): TRUE; FlexRay TM: TRUE; Floating Point Unit: TRUE; Green: TRUE; Halogen-free: TRUE; On-chip clock generation: TRUE; On-chip Voltage Regulator: TRUE; Oscillator Watchdog: TRUE; Packing: Reel; Peripheral Control Processor (PCP): TRUE; Power Modes: 3; SRAM (incl. Cache): 152 KByte; Watchdog Timer: TRUE; Mounting Technology: Surface Mount; Code_JEDEC: J-STD-020C; ComponentLink1Description: Manufacturer URL; ComponentLink1URL: http://www.infineon.com/; ComponentLink2Description: Datasheet; ComponentLink2URL: http://www.infineon.com/dgdl/TC1724_DS_V1.1.pdf?folderId=db3a304412b407950112b409ae7c0343&fileId=db3a30433580b3710135815455840086; ComponentLink3Description: Package Specification; ComponentLink3URL: http://www.infineon.com/dgdl/TC1724_DS_V1.1.pdf?folderId=db3a304412b407950112b409ae7c0343&fileId=db3a30433580b3710135815455840086
footprint INF-PG-LQFP-144-17_N (QFP, 144-Leads, Body 20x20mm, Pitch 0.5mm, Thermal Pad 7.5x7.5mm, IPC Medium Density)
footprint INF-PG-LQFP-144-17_L (QFP, 144-Leads, Body 20x20mm, Pitch 0.5mm, Thermal Pad 7.5x7.5mm, IPC High Density)
footprint INF-PG-LQFP-144-17_M (QFP, 144-Leads, Body 20x20mm, Pitch 0.5mm, Thermal Pad 7.5x7.5mm, IPC Low Density)
part A pins: 1 P5.0 (io), 2 P5.1 (io), 3 P5.2 (io), 4 P5.3 (io), 5 P9.0 (io), 6 P9.1 (io), 7 P5.4 (io), 8 P5.5 (io), 9 P5.6 (io), 10 P5.7 (io), 11 P5.15 (io), 13 P9.7 (io), 14 P9.8 (io), 15 P5.8 (io), 16 P5.9 (io), 17 P5.10 (io), 18 P5.11 (io), 19 P5.12 (io), 20 P5.13 (io), 21 P5.14 (io), 26 P12.3 (io), 27 P12.2 (io), 28 P12.1 (io), 29 P12.0 (io), 35 P11.9 (io), 36 P11.7 (io), 37 P11.3 (io), 38 P11.0 (io), 61 P2.0 (io), 62 P2.1 (io), 63 P2.2 (io), 64 P2.3 (io), 65 P2.4 (io), 66 P2.5 (io), 67 P2.6 (io), 68 P2.7 (io), 69 P8.5 (io), 70 P8.6 (io), 71 P8.7 (io), 72 P4.2 (io), 73 P4.3 (io), 74 P1.8 (io), 75 P1.9 (io), 76 P1.10 (io), 77 P1.11 (io), 78 P1.3 (io), 79 P1.4 (io), 87 P9.5 (io), 89 P9.6 (io), 92 P1.0 (io), 93 P1.15 (io), 95 P1.1 (io), 99 P8.4 (io), 100 P8.3 (io), 101 P8.13 (io), 102 P3.5 (io), 103 P3.6 (io), 104 P3.8 (io), 105 P3.2 (io), 106 P3.3 (io), 107 P3.7 (io), 108 P3.4 (io), 109 P3.15 (io), 110 P3.14 (io), 111 P3.1 (io), 112 P3.0 (io), 113 P3.10 (io), 114 P3.9 (io), 115 P8.2 (io), 116 P8.1 (io), 117 P8.0 (io), 118 P3.13 (io), 119 P3.12 (io), 120 P3.11 (io), 121 P0.0 (io), 122 P0.1 (io), 123 P0.2 (io), 124 P0.3 (io), 128 P2.9 (io), 129 P2.10 (io), 130 P2.11 (io), 131 P2.12 (io), 132 P2.8 (io), 133 P2.13 (io), 134 P0.4 (io), 135 P0.5 (io), 136 P0.12 (io), 137 P0.13 (io), 138 P9.4 (io), 139 P9.3 (io), 140 P9.2 (io), 141 P0.6 (io), 142 P0.7 (io), 143 P0.14 (io), 144 P0.15 (io)
part B pins: 25 VPDG (in) "EVR Pass Device Gate", 30 AN35 (in) "Analog Input 35: FADC_FADIN1N", 31 AN34 (in) "Analog Input 34: FADC_FADIN1P", 32 AN33 (in) "Analog Input 33: FADC_FADIN0N", 33 AN32 (in) "Analog Input 32: FADC_FADIN0P", 34 AN7 (in) "Analog Input 7: ADC0.CH7", 39 AN15 (in) "Analog Input 15: ADC0.CH15", 40 AN14 (in) "Analog Input 14: ADC0.CH14", 45 AN13 (in) "Analog Input 13: ADC0.CH13", 46 AN12 (in) "Analog Input 12: ADC0.CH12", 47 AN11 (in) "Analog Input 11: ADC0.CH11", 48 AN10 (in) "Analog Input 10: ADC0.CH10", 49 AN9 (in) "Analog Input 9: ADC0.CH9", 50 AN8 (in) "Analog Input 8: ADC0.CH8", 51 AN6 (in) "Analog Input 6: ADC0.CH6", 52 AN5 (in) "Analog Input 5: ADC0.CH5", 53 AN4 (in) "Analog Input 4: ADC0.CH4", 54 AN3 (in) "Analog Input 3: ADC0.CH3", 55 AN2 (in) "Analog Input 2: ADC0.CH2", 56 AN1 (in) "Analog Input 1: ADC0.CH1", 57 AN0 (in) "Analog Input 0: ADC0.CH0", 81 XTAL1 "Main Oscillator Input", 82 XTAL2 "Main Oscillator Output", 88 TMS (io), 90 ~{TRST} (in) "JTAG Reset Input", 91 TCK (in), 94 ~{TESTMODE} (in) "Test Mode Select Input", 96 ~{ESR1} (io) "External System Request Reset Input 1", 97 ~{PORST} (in) "Power On Reset", 98 ~{ESR0} (io) "External System Request Reset Input 0"
part C pins: 12 VDD (power) "Digital Core Power Supply (1.3V)", 22 VDDP (power) "Port Power Supply (3.3V)", 23 VDD (power) "Digital Core Power Supply (1.3V)", 24 V5 (power) "EVR Power Supply (5V)", 41 VAGND0 (power) "ADC Reference Ground", 42 VAREF0 (power) "ADC0 and ADC1 Reference Voltage", 43 VSSM (power) "ADC Analog Part Ground", 44 VDDM (power) "ADC Analog Part Power Supply (3.3V - 5V)", 58 VDD (power) "Digital Core Power Supply (1.3V)", 59 VDDP (power) "Port Power Supply (3.3V)", 60 V5 (power) "EVR Power Supply (5V)", 80 VSS (power) "Digital Ground", 83 VSS (power) "Digital Ground", 84 VDD (power) "Digital Core Power Supply (1.3V)", 85 VDDP (power) "Port Power Supply (3.3V)", 86 V5 (power) "EVR Power Supply (5V)", 125 VDD (power) "Digital Core Power Supply (1.3V)", 126 VDDP (power) "Port Power Supply (3.3V)", 127 V5 (power) "EVR Power Supply (5V)", 145 EP "Exposed Pad"

## SAK-TC1724N-128F80HR AB
designator U?
80 MHz AUDO MCU with 1 MB Program Memory, 152 KByte SRAM, 3.3 V, -40 to 125 degC, PG-LQFP-144, Reel, Green; Manufacturer: Infineon; PartNumber: SAK-TC1724N-128F80HR AB; A / D input lines (incl. FADC): 28; CAN Nodes: 3; Digital I/O Lines: 95; DMA Channels: 16; DSP functionality (e.g MDU/MAC): TRUE; External Bus interface: FALSE; I/O Operation Voltages: 3.3 V; Instruction set architecture: TriCore v1.3.1; Instruction width [bits]: 32/16; LIN BSL loader (for fast Flash programming): FALSE; Max Clock Frequency: 80 MHz; Number of ADC Modules: 2; Program Memory: 1 MB; Serial I/O Interfaces: 8; Timed I/O Pins (PWM-Ch,CAPCOM): 77; Timer / Counter: 118; Type of Memory: Flash; Type of Serial I/O Interfaces: ASC(2), SSC(4), MSC(1), MLI(1); DatasheetVersion: Rev. 1.1; PackageVersion: V1.1, 03/2012; PackageReference: PG-LQFP-144-17; PackageDescription: 144-Pin Plastic (Green) Low Profile Quad Flat Package, Body 20 x 20 mm, Pitch 0.5 mm; E2PROM Emulation (Data-Flash): TRUE; FlexRay TM: FALSE; Floating Point Unit: TRUE; Green: TRUE; Halogen-free: TRUE; On-chip clock generation: TRUE; On-chip Voltage Regulator: TRUE; Oscillator Watchdog: TRUE; Packing: Reel; Peripheral Control Processor (PCP): TRUE; Power Modes: 3; SRAM (incl. Cache): 152 KByte; Watchdog Timer: TRUE; Mounting Technology: Surface Mount; Code_JEDEC: J-STD-020C; ComponentLink1Description: Manufacturer URL; ComponentLink1URL: http://www.infineon.com/; ComponentLink2Description: Datasheet; ComponentLink2URL: http://www.infineon.com/dgdl/TC1724_DS_V1.1.pdf?folderId=db3a304412b407950112b409ae7c0343&fileId=db3a30433580b3710135815455840086; ComponentLink3Description: Package Specification; ComponentLink3URL: http://www.infineon.com/dgdl/TC1724_DS_V1.1.pdf?folderId=db3a304412b407950112b409ae7c0343&fileId=db3a30433580b3710135815455840086
footprint INF-PG-LQFP-144-17_N (QFP, 144-Leads, Body 20x20mm, Pitch 0.5mm, Thermal Pad 7.5x7.5mm, IPC Medium Density)
footprint INF-PG-LQFP-144-17_L (QFP, 144-Leads, Body 20x20mm, Pitch 0.5mm, Thermal Pad 7.5x7.5mm, IPC High Density)
footprint INF-PG-LQFP-144-17_M (QFP, 144-Leads, Body 20x20mm, Pitch 0.5mm, Thermal Pad 7.5x7.5mm, IPC Low Density)
part A pins: 1 P5.0 (io), 2 P5.1 (io), 3 P5.2 (io), 4 P5.3 (io), 5 P9.0 (io), 6 P9.1 (io), 7 P5.4 (io), 8 P5.5 (io), 9 P5.6 (io), 10 P5.7 (io), 11 P5.15 (io), 13 P9.7 (io), 14 P9.8 (io), 15 P5.8 (io), 16 P5.9 (io), 17 P5.10 (io), 18 P5.11 (io), 19 P5.12 (io), 20 P5.13 (io), 21 P5.14 (io), 26 P12.3 (io), 27 P12.2 (io), 28 P12.1 (io), 29 P12.0 (io), 35 P11.9 (io), 36 P11.7 (io), 37 P11.3 (io), 38 P11.0 (io), 61 P2.0 (io), 62 P2.1 (io), 63 P2.2 (io), 64 P2.3 (io), 65 P2.4 (io), 66 P2.5 (io), 67 P2.6 (io), 68 P2.7 (io), 69 P8.5 (io), 70 P8.6 (io), 71 P8.7 (io), 72 P4.2 (io), 73 P4.3 (io), 74 P1.8 (io), 75 P1.9 (io), 76 P1.10 (io), 77 P1.11 (io), 78 P1.3 (io), 79 P1.4 (io), 87 P9.5 (io), 89 P9.6 (io), 92 P1.0 (io), 93 P1.15 (io), 95 P1.1 (io), 99 P8.4 (io), 100 P8.3 (io), 101 P8.13 (io), 102 P3.5 (io), 103 P3.6 (io), 104 P3.8 (io), 105 P3.2 (io), 106 P3.3 (io), 107 P3.7 (io), 108 P3.4 (io), 109 P3.15 (io), 110 P3.14 (io), 111 P3.1 (io), 112 P3.0 (io), 113 P3.10 (io), 114 P3.9 (io), 115 P8.2 (io), 116 P8.1 (io), 117 P8.0 (io), 118 P3.13 (io), 119 P3.12 (io), 120 P3.11 (io), 121 P0.0 (io), 122 P0.1 (io), 123 P0.2 (io), 124 P0.3 (io), 128 P2.9 (io), 129 P2.10 (io), 130 P2.11 (io), 131 P2.12 (io), 132 P2.8 (io), 133 P2.13 (io), 134 P0.4 (io), 135 P0.5 (io), 136 P0.12 (io), 137 P0.13 (io), 138 P9.4 (io), 139 P9.3 (io), 140 P9.2 (io), 141 P0.6 (io), 142 P0.7 (io), 143 P0.14 (io), 144 P0.15 (io)
part B pins: 25 VPDG (in) "EVR Pass Device Gate", 30 AN35 (in) "Analog Input 35: FADC_FADIN1N", 31 AN34 (in) "Analog Input 34: FADC_FADIN1P", 32 AN33 (in) "Analog Input 33: FADC_FADIN0N", 33 AN32 (in) "Analog Input 32: FADC_FADIN0P", 34 AN7 (in) "Analog Input 7: ADC0.CH7", 39 AN15 (in) "Analog Input 15: ADC0.CH15", 40 AN14 (in) "Analog Input 14: ADC0.CH14", 45 AN13 (in) "Analog Input 13: ADC0.CH13", 46 AN12 (in) "Analog Input 12: ADC0.CH12", 47 AN11 (in) "Analog Input 11: ADC0.CH11", 48 AN10 (in) "Analog Input 10: ADC0.CH10", 49 AN9 (in) "Analog Input 9: ADC0.CH9", 50 AN8 (in) "Analog Input 8: ADC0.CH8", 51 AN6 (in) "Analog Input 6: ADC0.CH6", 52 AN5 (in) "Analog Input 5: ADC0.CH5", 53 AN4 (in) "Analog Input 4: ADC0.CH4", 54 AN3 (in) "Analog Input 3: ADC0.CH3", 55 AN2 (in) "Analog Input 2: ADC0.CH2", 56 AN1 (in) "Analog Input 1: ADC0.CH1", 57 AN0 (in) "Analog Input 0: ADC0.CH0", 81 XTAL1 "Main Oscillator Input", 82 XTAL2 "Main Oscillator Output", 88 TMS (io), 90 ~{TRST} (in) "JTAG Reset Input", 91 TCK (in), 94 ~{TESTMODE} (in) "Test Mode Select Input", 96 ~{ESR1} (io) "External System Request Reset Input 1", 97 ~{PORST} (in) "Power On Reset", 98 ~{ESR0} (io) "External System Request Reset Input 0"
part C pins: 12 VDD (power) "Digital Core Power Supply (1.3V)", 22 VDDP (power) "Port Power Supply (3.3V)", 23 VDD (power) "Digital Core Power Supply (1.3V)", 24 V5 (power) "EVR Power Supply (5V)", 41 VAGND0 (power) "ADC Reference Ground", 42 VAREF0 (power) "ADC0 and ADC1 Reference Voltage", 43 VSSM (power) "ADC Analog Part Ground", 44 VDDM (power) "ADC Analog Part Power Supply (3.3V - 5V)", 58 VDD (power) "Digital Core Power Supply (1.3V)", 59 VDDP (power) "Port Power Supply (3.3V)", 60 V5 (power) "EVR Power Supply (5V)", 80 VSS (power) "Digital Ground", 83 VSS (power) "Digital Ground", 84 VDD (power) "Digital Core Power Supply (1.3V)", 85 VDDP (power) "Port Power Supply (3.3V)", 86 V5 (power) "EVR Power Supply (5V)", 125 VDD (power) "Digital Core Power Supply (1.3V)", 126 VDDP (power) "Port Power Supply (3.3V)", 127 V5 (power) "EVR Power Supply (5V)", 145 EP "Exposed Pad"

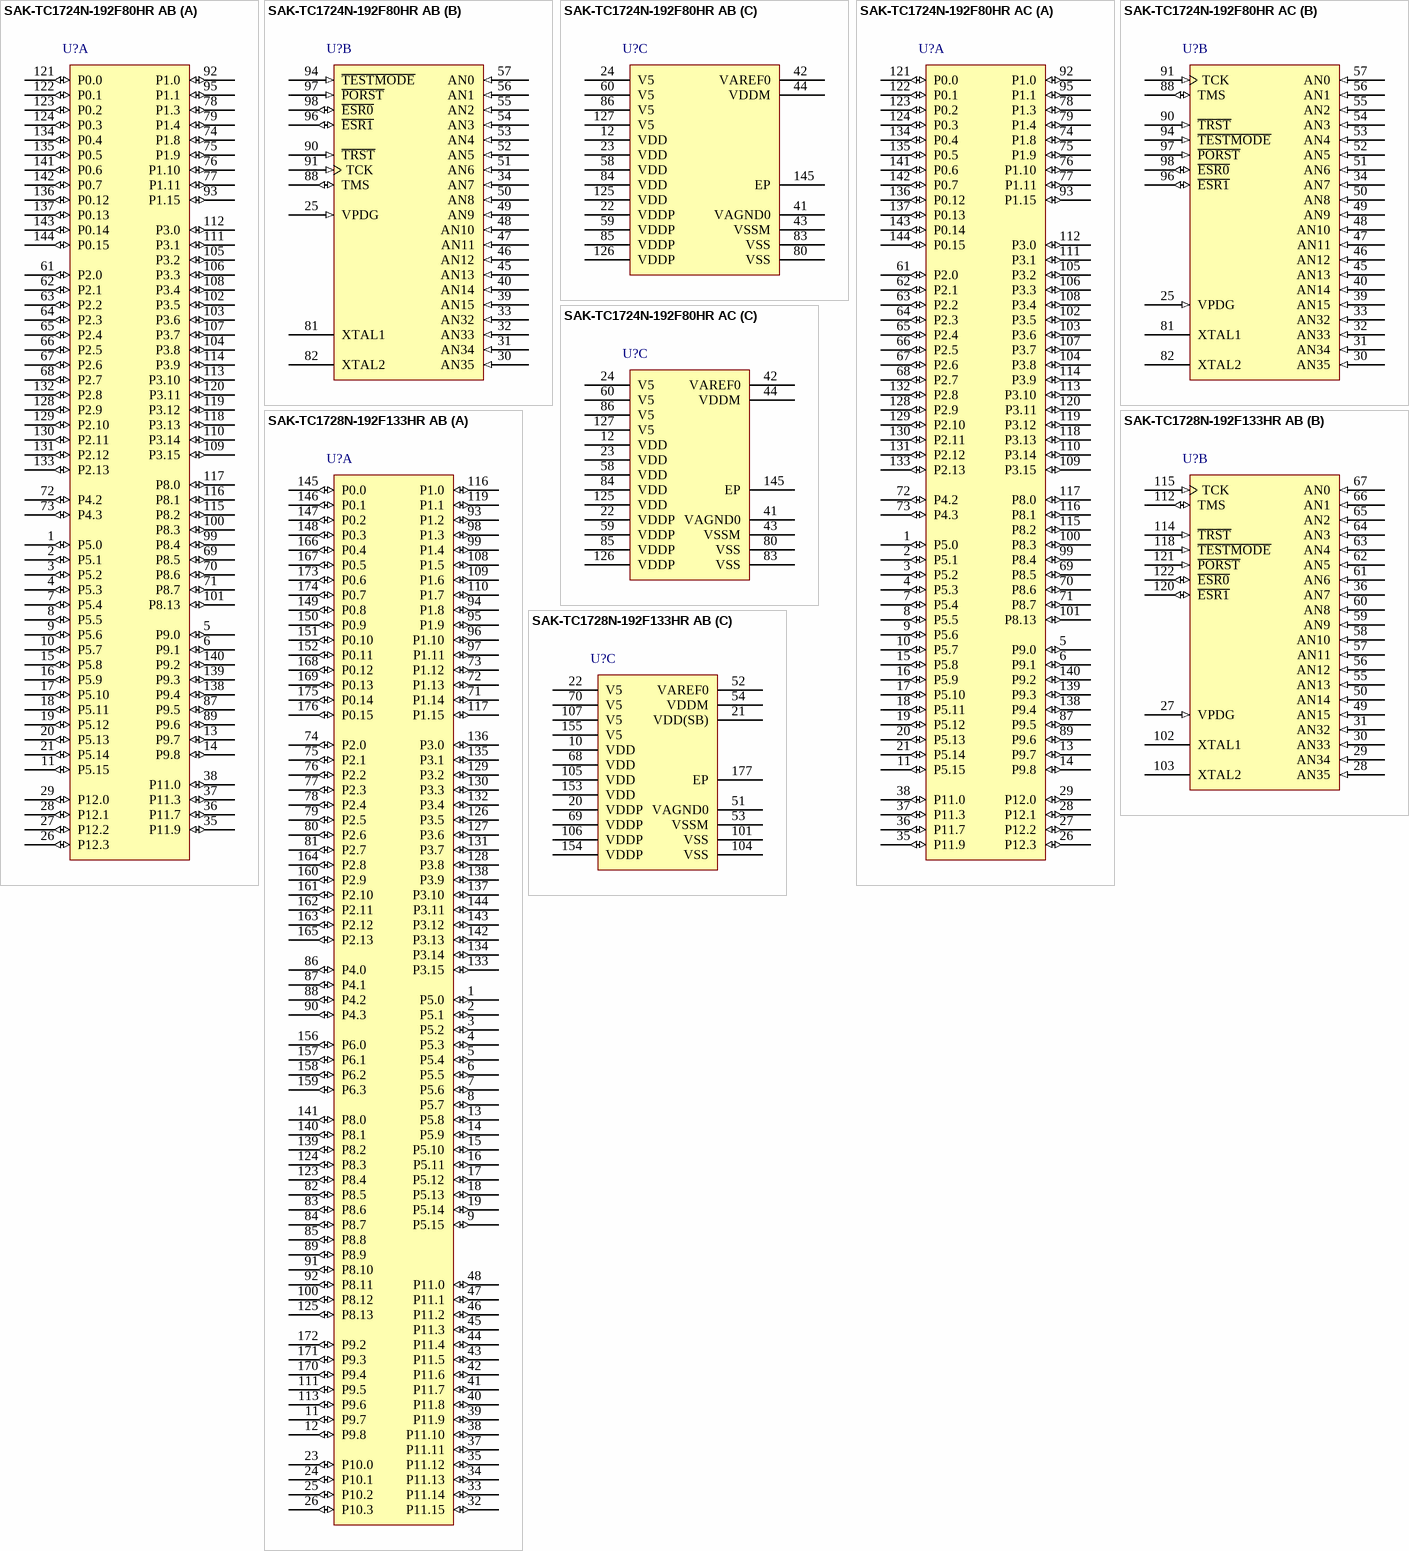
[diagram p50: symbols SAK-TC1724N-192F80HR AB to SAK-TC1728N-192F133HR AB]